# Altium footprint library 1759547-1.PcbLib: 1 footprints
Each footprint in its own frame and in the unit in brackets; x right, y up, seen from the top. Pads: shape width x height; smd on the part's side, far side on the other; paste and mask are expansions set on the pad; w line width, h text height; cw(c..) or ccw(c..) is an arc to the next point about the centre after c.
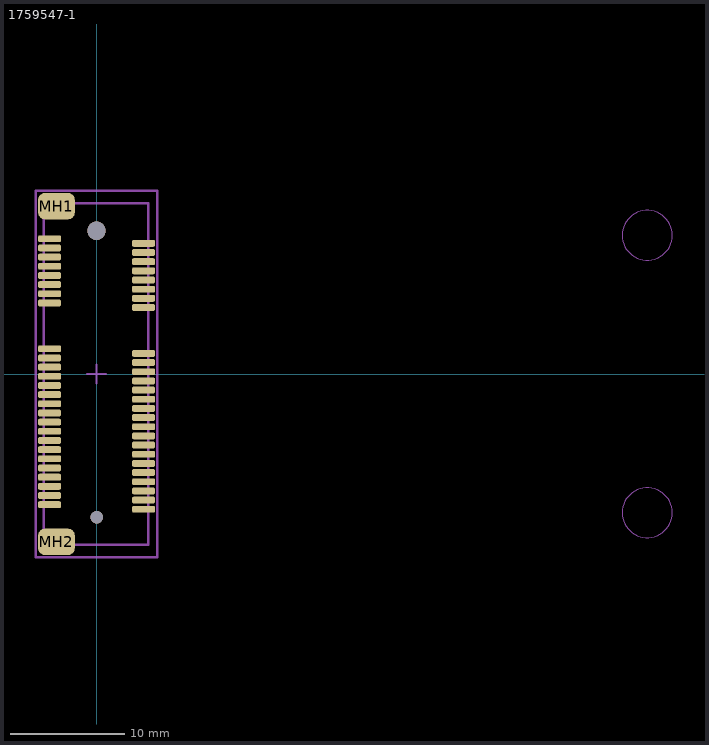
[diagram p0: the footprint, top view; thin cyan lines are the x and y axes]

## 1759547-1 [mm]
pads (54):
  rrect50% 2x0.6 smd paste-0.05 mask+0.05: 1(-4.1,11.8) 2(4.1,11.4) 3(-4.1,11) 4(4.1,10.6) 5(-4.1,10.2) 6(4.1,9.8) 7(-4.1,9.4) 8(4.1,9) 9(-4.1,8.6) 10(4.1,8.2) 11(-4.1,7.8) 12(4.1,7.4) 13(-4.1,7) 14(4.1,6.6) 15(-4.1,6.2) 16(4.1,5.8) 17(-4.1,2.2) 18(4.1,1.8) 19(-4.1,1.4) 20(4.1,1) 21(-4.1,0.6) 22(4.1,0.2) 23(-4.1,-0.2) 24(4.1,-0.6) 25(-4.1,-1) 26(4.1,-1.4) 27(-4.1,-1.8) 28(4.1,-2.2) 29(-4.1,-2.6) 30(4.1,-3) 31(-4.1,-3.4) 32(4.1,-3.8) 33(-4.1,-4.2) 34(4.1,-4.6) 35(-4.1,-5) 36(4.1,-5.4) 37(-4.1,-5.8) 38(4.1,-6.2) 39(-4.1,-6.6) 40(4.1,-7) 41(-4.1,-7.4) 42(4.1,-7.8) 43(-4.1,-8.2) 44(4.1,-8.6) 45(-4.1,-9) 46(4.1,-9.4) 47(-4.1,-9.8) 48(4.1,-10.2) 49(-4.1,-10.6) 50(4.1,-11) 51(-4.1,-11.4) 52(4.1,-11.8)
  rrect50% 3.2x2.3 smd paste-0.1 mask+0.05: MH1(-3.5,14.65) MH2(-3.5,-14.65)
via 0,12.5 diameter 1.6 hole 1.6
via 0,-12.5 diameter 1.1 hole 1.1
Top Assembly:
  circle w0.1: c48.05,12.1 r2.175
  circle w0.1: c48.05,-12.1 r2.175
  lines w0.2: -4.6,-14.9 4.5,-14.9 4.5,14.9 -4.6,14.9 -4.6,-14.9
Top Courtyard:
  lines w0.2: -0.8,0 0,0 ; 0,-0.8 0,0 ; 0,0.8 0,0 ; 0.8,0 0,0 ; -5.3,-16 -5.3,16 5.3,16 5.3,-16 -5.3,-16
3D body "c-1759547-1-j-3d.stp": height 6.98, standoff -0.67, extent -4.604,-14.95 4.496,14.95